# Altium footprint library Kanaloa_v2.0.0_Loko.PcbLib: 26 footprints (part 2 of 2)
Each footprint in its own frame and in the unit in brackets; x right, y up, seen from the top. Pads: shape width x height; smd on the part's side, far side on the other; paste and mask are expansions set on the pad; w line width, h text height; cw(c..) or ccw(c..) is an arc to the next point about the centre after c.
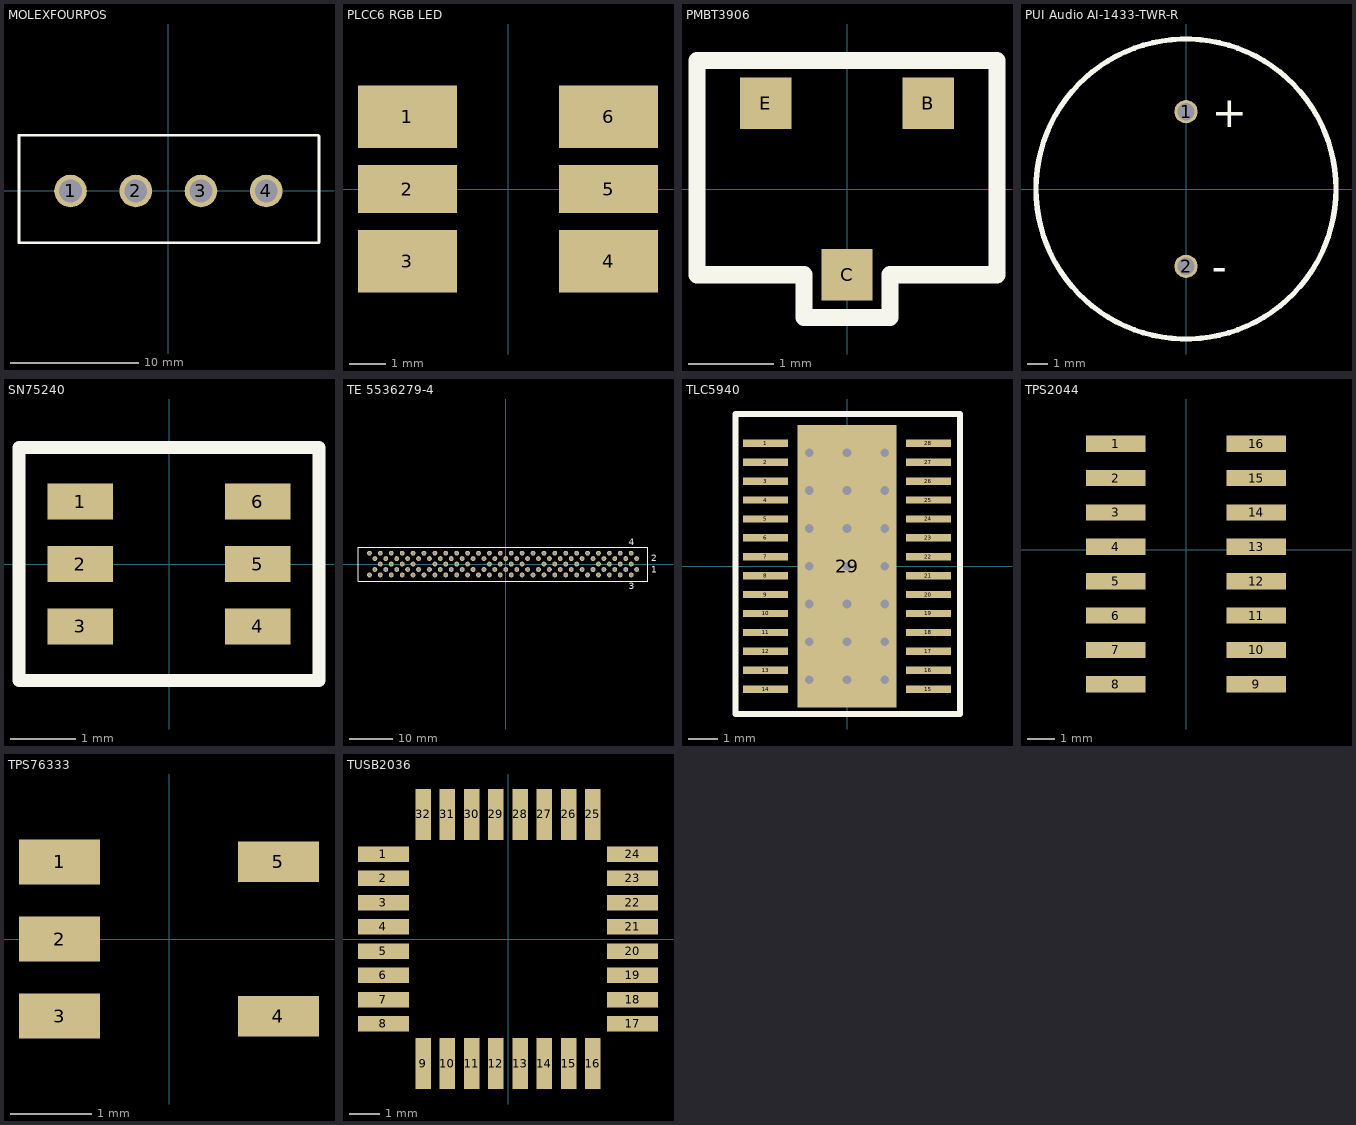
[diagram p1: the footprints below, top view; thin cyan lines are the x and y axes]

## MOLEXFOURPOS [mil]
pads (4):
  round 100 hole 70: 1(-300,0) 2(-100,0) 3(100,0) 4(300,0)
Top Overlay:
  lines w7.87: -458,-159 -458,171 459,171 462,168 462,-157 460,-159 -458,-159
3D body: height 400, standoff -141.73, extent -454.87,-159.99 460.88,166

## PLCC6 RGB LED [mm] "Cree, CLV6A-FKB package"
pads (6):
  rect 2.7x1.7 smd: 1(-2.75,1.975) 3(-2.75,-1.975) 4(2.75,-1.975) 6(2.75,1.975)
  rect 2.7x1.3 smd: 2(-2.75,0) 5(2.75,0)
3D body: height 2.6, standoff 0, extent -2.75,-2.75 2.75,2.75

## PMBT3906 [mm]
pads (3):
  rect 0.6x0.6 smd: B(0.95,1) C(0,-1) E(-0.95,1)
Top Overlay:
  lines w0.2: -1.75,-1 -1.75,1.5 1.75,1.5 1.75,-1 0.5,-1 0.5,-1.5 -0.5,-1.5 -0.5,-1 -1.75,-1
3D body: height 1, standoff 0, extent -1.75,-1 1.75,1.5

## PUI Audio AI-1433-TWR-R [mil] "Active Piezo Buzzer 3.3kHz , 3-18V"
pads (2):
  round 45 hole 33.6: 1(0,149.61) 2(0,-149.61)
Top Overlay:
  circle w10: c0,0 r290
  text "-" at 50,-179.61 h60
  text "+" at 50,119.61 h60
3D body: height 301.97, standoff -211.81, extent -433.07,-271.65 271.66,271.65

## SN75240 [mm]
pads (6):
  rect 1x0.55 smd: 1(-1.35,0.95) 2(-1.35,0) 3(-1.35,-0.95) 4(1.35,-0.95) 5(1.35,0) 6(1.35,0.95)
Top Overlay:
  lines w0.2: -2.286,-1.778 -2.286,1.778 2.286,1.778 2.286,-1.778 -2.286,-1.778
3D body: height 0.86, standoff 0, extent -1.43,-1.5 1.379,1.5

## TE 5536279-4 [mil] "Mezzanine Connector"
pads (120):
  round 44 hole 24 mask+0: 1(1200,-50) 2(1200,50) 3(1150,-100) 4(1150,100) 5(1100,-50) 6(1100,50) 7(1050,-100) 8(1050,100) 9(1000,-50) 10(1000,50) 11(950,-100) 12(950,100) 13(900,-50) 14(900,50) 15(850,-100) 16(850,100) 17(800,-50) 18(800,50) 19(750,-100) 20(750,100) 21(700,-50) 22(700,50) 23(650,-100) 24(650,100) 25(600,-50) 26(600,50) 27(550,-100) 28(550,100) 29(500,-50) 30(500,50) 31(450,-100) 32(450,100) 33(400,-50) 34(400,50) 35(350,-100) 36(350,100) 37(300,-50) 38(300,50) 39(250,-100) 40(250,100) 41(200,-50) 42(200,50) 43(150,-100) 44(150,100) 45(100,-50) 46(100,50) 47(50,-100) 48(50,100) 49(0,-50) 50(0,50) 51(-50,-100) 52(-50,100) 53(-100,-50) 54(-100,50) 55(-150,-100) 56(-150,100) 57(-200,-50) 58(-200,50) 59(-250,-100) 60(-250,100) 61(-300,-50) 62(-300,50) 63(-350,-100) 64(-350,100) 65(-400,-50) 66(-400,50) 67(-450,-100) 68(-450,100) 69(-500,-50) 70(-500,50) 71(-550,-100) 72(-550,100) 73(-600,-50) 74(-600,50) 75(-650,-100) 76(-650,100) 77(-700,-50) 78(-700,50) 79(-750,-100) 80(-750,100) 81(-800,-50) 82(-800,50) 83(-850,-100) 84(-850,100) 85(-900,-50) 86(-900,50) 87(-950,-100) 88(-950,100) 89(-1000,-50) 90(-1000,50) 91(-1050,-100) 92(-1050,100) 93(-1100,-50) 94(-1100,50) 95(-1150,-100) 96(-1150,100) 97(-1200,-50) 98(-1200,50) 99(-1250,-100) 100(-1250,100) GND(-1150,0) GND(-1050,0) GND(-950,0) GND(-850,0) GND(-650,0) GND(-550,0) GND(-450,0) GND(-350,0) GND(-150,0) GND(-50,0) GND(50,0) GND(150,0) GND(350,0) GND(450,0) GND(550,0) GND(650,0) GND(850,0) GND(950,0) GND(1050,0) GND(1150,0)
Top Overlay:
  lines w7.87: -1355,-156 1301,-156 1301,156 -13,156 -1355,156 -1355,-156
  text "1" at 1336,-82 h60
  text "2" at 1336,25 h60
  text "4" at 1127,173 h60
  text "3" at 1128,-232 h60
3D body: height 320, standoff -95, extent -1346.99,-141.49 1293.01,143.51

## TLC5940 [mm] "TI LED Driver with PWM"
pads (29):
  rect 1.55x0.25 smd: 1(-2.8,4.225) 2(-2.8,3.575) 3(-2.8,2.925) 4(-2.8,2.275) 5(-2.8,1.625) 6(-2.8,0.975) 7(-2.8,0.325) 8(-2.8,-0.325) 9(-2.8,-0.975) 10(-2.8,-1.625) 11(-2.8,-2.275) 12(-2.8,-2.925) 13(-2.8,-3.575) 14(-2.8,-4.225) 15(2.8,-4.225) 16(2.8,-3.575) 17(2.8,-2.925) 18(2.8,-2.275) 19(2.8,-1.625) 20(2.8,-0.975) 21(2.8,-0.325) 22(2.8,0.325) 23(2.8,0.975) 24(2.8,1.625) 25(2.8,2.275) 26(2.8,2.925) 27(2.8,3.575) 28(2.8,4.225)
  rect 3.4x9.7 smd: 29(0,0)
via -1.3,-3.9 diameter 0.508 hole 0.3
via -1.3,-2.6 diameter 0.508 hole 0.3
via -1.3,-1.3 diameter 0.508 hole 0.3
via -1.3,0 diameter 0.508 hole 0.3
via -1.3,1.3 diameter 0.508 hole 0.3
via -1.3,2.6 diameter 0.508 hole 0.3
via -1.3,3.9 diameter 0.508 hole 0.3
via 0,-3.9 diameter 0.508 hole 0.3
via 0,-2.6 diameter 0.508 hole 0.3
via 0,-1.3 diameter 0.508 hole 0.3
via 0,0 diameter 0.508 hole 0.3
via 0,1.3 diameter 0.508 hole 0.3
via 0,2.6 diameter 0.508 hole 0.3
via 0,3.9 diameter 0.508 hole 0.3
via 1.3,-3.9 diameter 0.508 hole 0.3
via 1.3,-2.6 diameter 0.508 hole 0.3
via 1.3,-1.3 diameter 0.508 hole 0.3
via 1.3,0 diameter 0.508 hole 0.3
via 1.3,1.3 diameter 0.508 hole 0.3
via 1.3,2.6 diameter 0.508 hole 0.3
via 1.3,3.9 diameter 0.508 hole 0.3
Top Overlay:
  lines w0.2: -3.835,-5.08 3.886,-5.08 3.886,5.232 -3.835,5.232 -3.835,-5.08
3D body: height 1.17, standoff -0.03, extent -3.31,-4.9 3.31,4.9

## TPS2044 [mm] "TI QUAD POWER DISTRIBUTION SWITCHES"
pads (16):
  rect 2.2x0.6 smd: 1(-2.6,3.912) 2(-2.6,2.642) 3(-2.6,1.372) 4(-2.6,0.102) 5(-2.6,-1.168) 6(-2.6,-2.438) 7(-2.6,-3.708) 8(-2.6,-4.978) 9(2.6,-4.978) 10(2.6,-3.708) 11(2.6,-2.438) 12(2.6,-1.168) 13(2.6,0.102) 14(2.6,1.372) 15(2.6,2.642) 16(2.6,3.912)
3D body: height 1.8, standoff 0, extent -3.325,-5.533 3.275,4.467

## TPS76333 [mm] "TI Linear Regulator"
pads (5):
  rect 1x0.55 smd: 1(-1.35,0.95) 2(-1.35,0) 3(-1.35,-0.95)
  rect 1x0.5 smd: 4(1.35,-0.95) 5(1.35,0.95)
3D body: height 1.3, standoff -0.15, extent -1.576,-1.524 1.424,1.526

## TUSB2036 [mil] "USB HUB Controller IC (TI)"
pads (32):
  rect 66x20 smd: 1(-162,110.24) 2(-162,78.74) 3(-162,47.24) 4(-162,15.75) 5(-162,-15.75) 6(-162,-47.24) 7(-162,-78.74) 8(-162,-110.24) 17(162,-110.24) 18(162,-78.74) 19(162,-47.24) 20(162,-15.75) 21(162,15.75) 22(162,47.24) 23(162,78.74) 24(162,110.24)
  rect 20x66 smd: 9(-110.24,-162) 10(-78.74,-162) 11(-47.24,-162) 12(-15.75,-162) 13(15.75,-162) 14(47.24,-162) 15(78.74,-162) 16(110.24,-162) 25(110.24,162) 26(78.74,162) 27(47.24,162) 28(15.75,162) 29(-15.75,162) 30(-47.24,162) 31(-78.74,162) 32(-110.24,162)
3D body: height 57.09, standoff -3.94, extent -183.16,-177.16 171.17,177.17